# Altium schematic symbol library SchematicLib.SchLib: 27 symbols
Pins are listed as number, name and electrical type; pins without a type are passive.

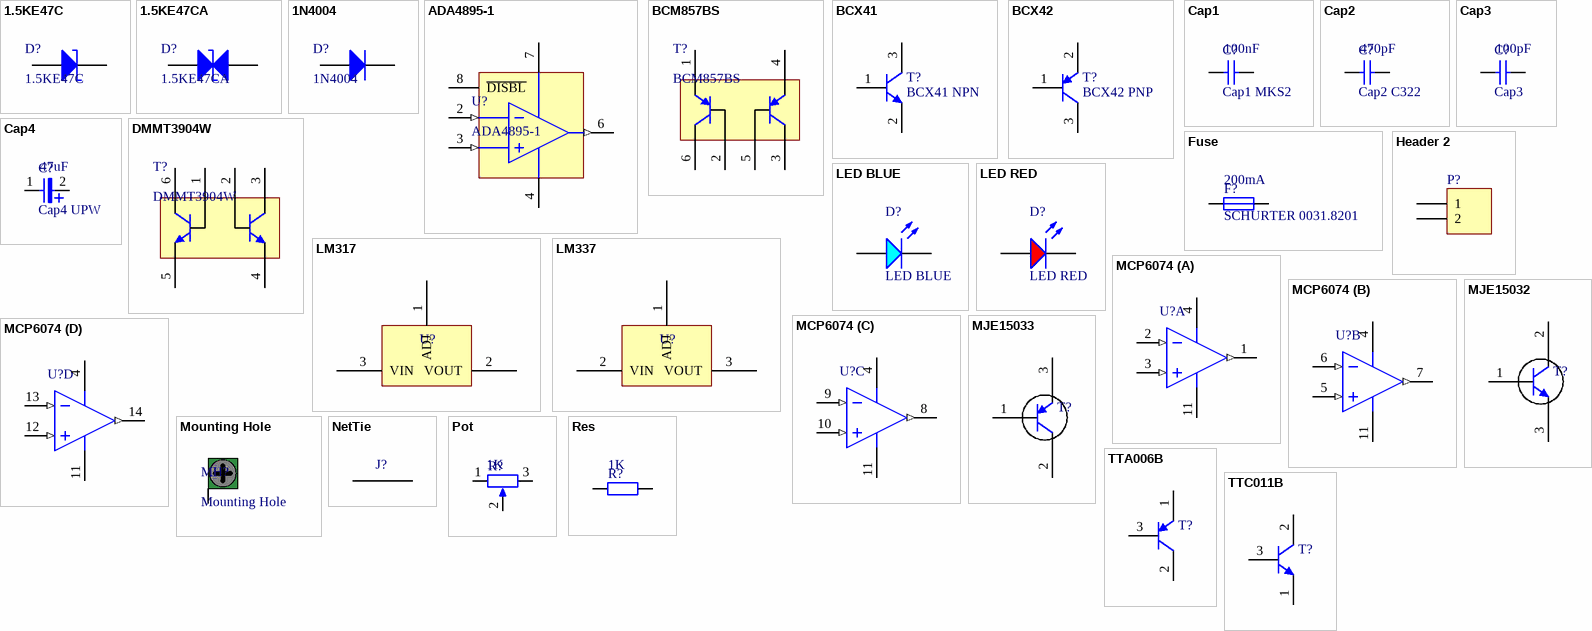
[diagram p0: symbols 1.5KE47C to TTC011B]

## 1.5KE47C
designator D?
Transient Voltage Suppressor Diodes; Breakdown V: 44.7...49.4, Stand-off V: 40.2
footprint DIODE-0.7 (Diode, Thru-Hole; 2 Leads; 0.7 in Pin Spacing)
pins: 1 IN1, 2 IN2

## 1.5KE47CA
designator D?
Transient Voltage Suppressor Diodes; Breakdown V: 44.7...49.4, Stand-off V: 40.2
footprint DIODE-0.7 (Diode, Thru-Hole; 2 Leads; 0.7 in Pin Spacing)
pins: 1 IN1, 2 IN2

## 1N4004
designator D?
Standard Recovery Rectifier Diodes
footprint DO-41 (Diode, Axial; Body 5.2 x 2.7 mm (LxDia. max), Lead Dia. 0.86 mm (max))
pins: 1 IN1, 2 IN2

## ADA4895-1
designator U?
Low Power, 1 nV/√Hz, G ≥ 10 Stable, Rail-to-Rail Output Amplifier
footprint SOIC_8_IPC_MD (SOIC, 8-Leads, Pitch 1,27mm, IPC Medium Density)
pins: 2 VIND- (in), 3 VIND+ (in), 4 VSS (power), 6 VOUTD (out), 7 VDD (power), 8 ~{DISBL}

## BCM857BS
designator T?
40V MATCHED PAIR NPN SMALL SIGNAL TRANSISTOR
footprint SOT363_IPC_MD (TSOP, 6-Leads, Body 2,00x1,25mm, Pitch 0,65mm, IPC Medium Density)
pins: 1 C1, 2 B1, 3 E2, 4 C2, 5 B2, 6 E1

## BCX41
designator T?, comment BCX41 NPN
NPN Silicon AF and Switching Transistor; ComponentLink1Description: Manufacturer Link; ComponentLink1URL: http://www.fairchildsemi.com/; ComponentLink2Description: Datasheet; ComponentLink2URL: http://www.fairchildsemi.com/ds/2N%2F2N3904.pdf
footprint SOT23_IPC_MD (SOT23, 3-Leads, Body 2.90x2.45mm, Pitch 0.95mm, IPC Medium Density)
pins: 1 B, 2 E, 3 C

## BCX42
designator T?, comment BCX42 PNP
PNP Silicon AF and Switching Transistor; ComponentLink1Description: Manufacturer Link; ComponentLink1URL: http://www.fairchildsemi.com/; ComponentLink2Description: Datasheet; ComponentLink2URL: http://www.fairchildsemi.com/ds/2N%2F2N3906.pdf
footprint SOT23_IPC_MD (SOT23, 3-Leads, Body 2.90x2.45mm, Pitch 0.95mm, IPC Medium Density)
pins: 1 B, 2 E, 3 C

## Cap1
designator C?, comment Cap1 MKS2  value 100nF
WIMA MKS2 Metallized Polyester (PET) / Capacitors in PCM 5 mm
footprint CAP-0.5-WIMA_MKS2 (Metallized Polyester (PET)   Capacitors in PCM 5 mm)
pins: 1, 2

## Cap2
designator C?, comment Cap2 C322  value 470pF
KEMEX Radial Leaded Multilayer Ceramic Capacitors / Goldmax, 300 Series, Conformally Coated, / C0G Dielectric, 25 – 250 VDC (Commercial Grade)
footprint CAP-CERAMIC-200MIL (UPW, Aluminium Electrolytic Capacitor)
pins: 1, 2

## Cap3
designator C?  value 100pF
Standard SMD 0805 Capacitor
footprint CAP_0805_IPC_MD (Chip Capacitor, 2-Leads, Body 2.00x1.25mm, IPC Medium Density)
pins: 1, 2

## Cap4
designator C?, comment Cap4 UPW  value 47uF
Nichicon UPW Aluminium Electrolytic Capacitor
footprint CAP-POLARISED-2MM (UPW, Aluminium Electrolytic Capacitor)
pins: 1, 2

## DMMT3904W
designator T?
40V MATCHED PAIR NPN SMALL SIGNAL TRANSISTOR
footprint SOT363_IPC_MD (TSOP, 6-Leads, Body 2,00x1,25mm, Pitch 0,65mm, IPC Medium Density)
pins: 1 B1, 2 B2, 3 C2, 4 E2, 5 E1, 6 C1

## Fuse
designator F?, comment SCHURTER 0031.8201  value 200mA
Fuseholder Open Design, 5 x 20 mm, THT, SCHURTER 0031.8201
footprint SCHURTER 0031.8201 (Fuseholder Open Design, 5 x 20 mm, THT, var. Covers, IEC 60335-1)
pins: 1, 2

## Header 2
designator P?
Header, 2-Pin; LatestRevisionDate: 17-Jul-2002; LatestRevisionNote: Re-released for DXP Platform.; Publisher: Altium Limited
footprint DG300-5.0-02P-13
footprint DG330-5.0-02P
pins: 1, 2

## LED BLUE
designator D?
Standard SMD 0805 Blue LED; Published: 8-Jun-2000; LatestRevisionDate: 08-Jul-2005; LatestRevisionNote: Mech Layer 1 removed.; PackageReference: LED-1; Publisher: Altium Limited; PackageDescription: LED; 2 Leads
footprint DIO_0805_IPC_MD (Chip Diode, 2-Leads, Body 2,00x1,25mm, IPC Medium Density)
pins: 1 A, 2 K

## LED RED
designator D?
Standard SMD 0805 Red LED; Published: 8-Jun-2000; LatestRevisionDate: 08-Jul-2005; LatestRevisionNote: Mech Layer 1 removed.; PackageReference: LED-1; Publisher: Altium Limited; PackageDescription: LED; 2 Leads
footprint DIO_0805_IPC_MD (Chip Diode, 2-Leads, Body 2,00x1,25mm, IPC Medium Density)
pins: 1 A, 2 K

## LM317
designator U?
Wide Temperature Three-Pin Positive Adjustable Regulator
footprint TO-220 (TO, Thru-Hole, Vertical, Heatsink Mounted; 3 In-Line Leads; Pitch 2.54 mm)
pins: 1 ADJ, 2 VOUT, 3 VIN

## LM337
designator U?
Wide Temperature Three-Pin Negative Adjustable Regulator
footprint TO-220 (TO, Thru-Hole, Vertical, Heatsink Mounted; 3 In-Line Leads; Pitch 2.54 mm)
pins: 1 ADJ, 2 VIN, 3 VOUT

## MCP6074
designator U?
110 µA, High Precision Quad Op Amp, 14-Pin SOIC, Extended Temperature, Tape and Reel; Published: 2-Dec-2009; DatasheetVersion: revA, Mar-2009; PackageVersion: revBB, Aug-2009; PackageReference: SOIC-SL14; Publisher: Altium Limited; PackageDescription: 14-Lead Plastic Small Outline (SL) - Narrow, 3.90mm Body [SOIC]; Supplier 1: Digi-Key; Supplier Part Number 1: MCP6074T-E/SL-ND; Code_JEDEC: MS-012-AB; Code_IPC: SOIC127P600-14; ComponentLink1Description: Datasheet; ComponentLink1URL: http://ww1.microchip.com/downloads/en/DeviceDoc/22142a.pdf; ComponentLink2Description: Packaging Specification; ComponentLink2URL: http://www.microchip.com/stellent/groups/techpub_sg/documents/packagingspec/en012702.pdf; ComponentLink3Description: Microchip.com Home; ComponentLink3URL: http://www.microchip.com/
footprint SO_14_IPC_MD (SOP, 14-Leads, Body 8,65x3,90mm, Pitch 1,27mm, IPC Medium Density)
pins on every part: 4 VDD (power), 11 VSS (power)
part A pins: 1 VOUTA (out), 2 VINA- (in), 3 VINA+ (in)
part B pins: 5 VINB+ (in), 6 VINB- (in), 7 VOUTB (out)
part C pins: 8 VOUTC (out), 9 VINC- (in), 10 VINC+ (in)
part D pins: 12 VIND+ (in), 13 VIND- (in), 14 VOUTD (out)

## MJE15032
designator T?
NPN High Power Transistor; ComponentLink1Description: Manufacturer Link; ComponentLink1URL: http://www.fairchildsemi.com/; ComponentLink2Description: Datasheet; ComponentLink2URL: http://www.fairchildsemi.com/ds/2N%2F2N3904.pdf
footprint TO-220 (TO, Thru-Hole, Vertical, Heatsink Mounted; 3 In-Line Leads; Pitch 2.54 mm)
pins: 1 B, 2 C, 3 E

## MJE15033
designator T?
PNP High Power Transistor; ComponentLink1Description: Manufacturer Link; ComponentLink1URL: http://www.fairchildsemi.com/; ComponentLink2Description: Datasheet; ComponentLink2URL: http://www.fairchildsemi.com/ds/2N%2F2N3904.pdf
footprint TO-220 (TO, Thru-Hole, Vertical, Heatsink Mounted; 3 In-Line Leads; Pitch 2.54 mm)
pins: 1 B, 2 C, 3 E

## Mounting Hole
designator MH?  (no BOM)
footprint MOUNTING HOLE 3mm
pins: MOUNTING

## NetTie
designator J?  (value not drawn)  (net tie, no BOM)
footprint NETTIE
footprint NETTIE_10MIL
footprint NETTIE_20mil
pins: 1, 2

## Pot
designator R?  value 1K
Potentiometer
footprint T910W
pins: 1, 2, 3

## Res
designator R?  value 1K
Resistor
footprint RESISTOR-10mm (Axial Device, Thru-Hole; 2 Leads; 0.4 in Pin Spacing)
pins: 1, 2

## TTA006B
designator T?
PNP High Voltage Transistor; ComponentLink1Description: Manufacturer Link; ComponentLink1URL: http://www.fairchildsemi.com/; ComponentLink2Description: Datasheet; ComponentLink2URL: http://www.fairchildsemi.com/ds/2N%2F2N3906.pdf
footprint TO-126 (FM, 3-Leads, Body 8.2x3.5mm, Pitch 2.4mm)
pins: 1 E, 2 C, 3 B

## TTC011B
designator T?
NPN High Voltage Transistor; ComponentLink1Description: Manufacturer Link; ComponentLink1URL: http://www.fairchildsemi.com/; ComponentLink2Description: Datasheet; ComponentLink2URL: http://www.fairchildsemi.com/ds/2N%2F2N3904.pdf
footprint TO-126 (FM, 3-Leads, Body 8.2x3.5mm, Pitch 2.4mm)
pins: 1 E, 2 C, 3 B